# EAGLE library part MAX4206 (library scono)
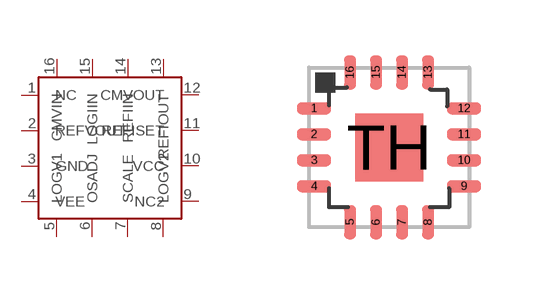
[diagram p3: symbol with the pads of QFN16THIN; footprint QFN16THIN]

Designator prefix -

## MAX4206  [QFN16THIN]
1  NC  in
2  REFVOUT  in
3  GND  in
4  VEE  in
5  LOGV1  in
6  OSADJ  in
7  SCALE  in
8  LOGV2  pas
9  NC2  pas
10  VCC  pas
11  REFISET  pas
12  CMVOUT  pas
13  REFIOUT  pwr
14  REFIIN  pwr
15  LOGIIN  out
16  CMVIN  out

## Footprint QFN16THIN (pad centres in mm)
smd 0.85 x 0.3: 1 -1.875,0.975; 2 -1.875,0.325; 3 -1.875,-0.325; 4 -1.875,-0.975; 9 1.875,-0.975; 10 1.875,-0.325; 11 1.875,0.325; 12 1.875,0.975
smd 0.3 x 0.85: 5 -0.975,-1.875; 6 -0.325,-1.875; 7 0.325,-1.875; 8 0.975,-1.875; 13 0.975,1.875; 14 0.325,1.875; 15 -0.325,1.875; 16 -0.975,1.875
smd 1.7 x 1.7: TH 0,0